# EAGLE library part PINHEAD_PINHD-2X5 (library DAWA 6.1)
PIN HEADER
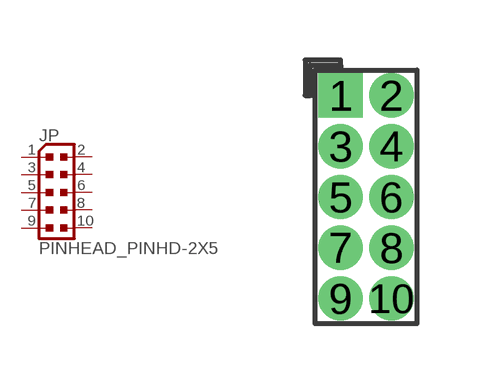
[diagram p0: symbol with the pads of PINHEAD_2X05_127; footprint PINHEAD_2X05_127]

Designator prefix JP

## PINHEAD_PINHD-2X5PASSO127  [PINHEAD_2X05_127]
1  1  pas
2  2  pas
3  3  pas
4  4  pas
5  5  pas
6  6  pas
7  7  pas
8  8  pas
9  9  pas
10  10  pas

## Footprint PINHEAD_2X05_127 (pad centres in mm)
drill 0.6 pad 1.016 square: 1 -0.635,2.54
drill 0.6 pad 1.016: 2 0.635,2.54; 3 -0.635,1.27; 4 0.635,1.27; 5 -0.635,0; 6 0.635,0; 7 -0.635,-1.27; 8 0.635,-1.27; 9 -0.635,-2.54; 10 0.635,-2.54